# EAGLE library part 428542320811 (library 428542320817_Eagle_WS-ROSV_rev20a)
WS-ROSV SMT Rotary Switch with Arrow Type Actuator 7x7 mm Material Properties Cover Material : Stainless Steel Packaging Properties Packaging :Tape and Reel Electrical Properties IR 1 :100 mA Properties AActuator Material：LCP Actuator Flammability Rating：UL94 V-0 Actuator Color：Grey; Ivory; Orange; Red Base Material：LCP Base Flammability Rating：UL94 V-0 Terminal Plating：Gold Actuator Type：Arrow Type Washable：Yes Additional VR：42 V (DC) Mechanical Properties Electrical Life：25000 Steps Actuator Type：Arrow Type Code：Complement Code; Real Code General Information Operating Temperature:-60 up to +125 °C Tableadditional Actuator Type：Arrow Type Washable：Yes <https://www.we-online.com/catalog/media/o55748v209%20Family_WS-ROSV_SMD_Rotary_Switch_428542320810.jpg> Details see: https://www.we-online.com/catalog/en/ROSV_7X7_WASHABLE_SMD_ARROW_TYPE/ Updated by yingchun,Shan;2020-02-24 2020(C) Würth Elektronik
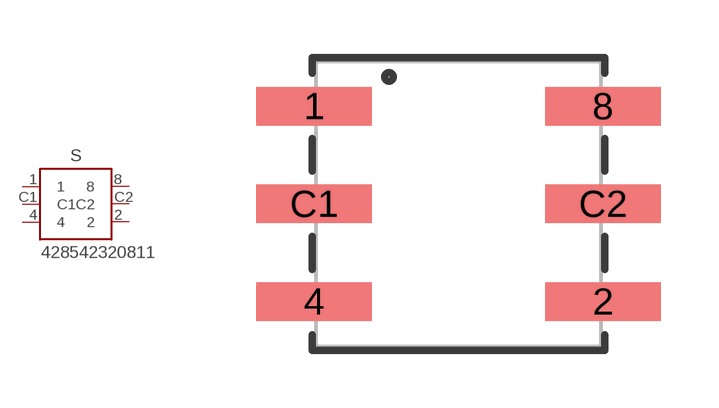
[diagram p8: symbol with the pads of 42854232081X_10POS; footprint 42854232081X_10POS]

Designator prefix S

## 428542320811 (DATASHEET-URL: https://www.we-online.com/catalog/datasheet/428542320811.pdf; NUMBER-OF-POSITION: 10; PART-NUMBER: 428542320811; QTY: 1300)  [42854232081X_10POS]
1  1  pas
2  2  pas
4  4  pas
8  8  pas
C1  C1  pas
C2  C2  pas

## Footprint 42854232081X_10POS (pad centres in mm)
WS-ROSV SMT Rotary Switch with Arrow Type Actuator 7x7 mm
smd 3 x 1: 1 -3.75,2.54; 2 3.75,-2.54; 4 -3.75,-2.54; 8 3.75,2.54; C1 -3.75,0; C2 3.75,0